# EAGLE library part ADA4805-1 (library ADA4805)
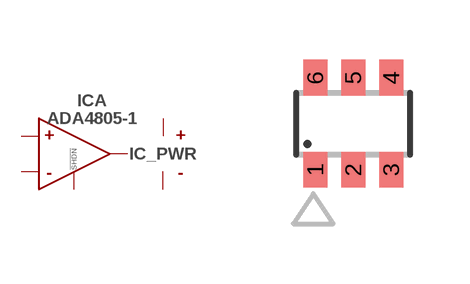
[diagram p0: symbol with the pads of SOT23-6; footprint SOT23-6]

Designator prefix IC; gates _PWR=PWR A=OP-AMP-SHDN

## ADA4805-1ARJZ  [SOT23-6]
1  A:OUT  out
2  _PWR:GND  pwr
3  A:INP  in
4  A:INN  in
5  A:!SHDN  in
6  _PWR:VDD  pwr

## Footprint SOT23-6 (pad centres in mm)
Small Outline Transistor 6 lead
smd 0.6 x 0.9: 1 -0.95,-1.15; 2 0,-1.15; 3 0.95,-1.15; 4 0.95,1.15; 5 0,1.15; 6 -0.95,1.15